# EAGLE library part 1X08 (library pimoroni-connectors)
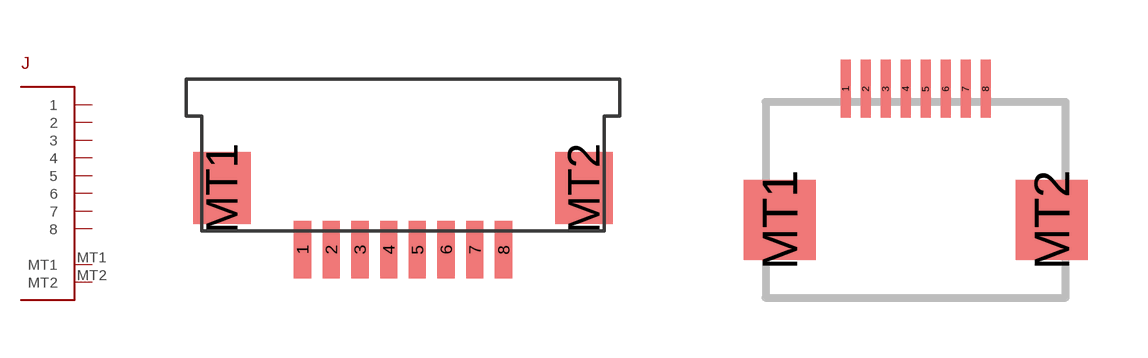
[diagram p2: symbol with the pads of FPC_1.0X08; footprints FPC_1.0X08, FPC_0.5X08_NARROW]

Designator prefix J

## 1X08_1.0MM  [FPC_1.0X08]
1  1
2  2
3  3
4  4
5  5
6  6
7  7
8  8
MT1  MT1
MT2  MT2

## 1X08_0.5MM_NARROW  [FPC_0.5X08_NARROW]
Pads as for FPC_1.0X08

## 1X08SH8P  [JST_SH_1.0MM_8P]
Pads as for FPC_1.0X08

## Footprint FPC_1.0X08 (pad centres in mm)
smd 0.6 x 2: 1 -3.5,-0.65; 2 -2.5,-0.65; 3 -1.5,-0.65; 4 -0.5,-0.65; 5 0.5,-0.65; 6 1.5,-0.65; 7 2.5,-0.65; 8 3.5,-0.65
smd 2 x 2.5: MT1 -6.3,1.5; MT2 6.3,1.5

## Footprint FPC_0.5X08_NARROW (pad centres in mm)
smd 0.25 x 1.45: 1 -1.75,0.325; 2 -1.25,0.325; 3 -0.75,0.325; 4 -0.25,0.325; 5 0.25,0.325; 6 0.75,0.325; 7 1.25,0.325; 8 1.75,0.325
smd 1.8 x 2: MT1 -3.4,-2.95; MT2 3.4,-2.95

## Footprint JST_SH_1.0MM_8P (pad centres in mm)
smd 0.6 x 1.55: 1 -3.5,4.775; 2 -2.5,4.775; 3 -1.5,4.775; 4 -0.5,4.775; 5 0.5,4.775; 6 1.5,4.775; 7 2.5,4.775; 8 3.5,4.775
smd 1.4 x 1.8: MT1 -5,0.9; MT2 5,0.9